# EAGLE library part TPS732XX (library m_vreg)
Cap-Free, NMOS, 250mALowDropout Regulator with Reverse Current Protection Features Stable with No Output Capacitor or Any Value or Type of Capacitor Input Voltage Range: 1.7V to 5.5V Ultralow Dropout Voltage: 40mV Typ at 250mA Excellent Load Transient Response?with or without Optional Output Capacitor New NMOS Topology Provides Low Reverse Leakage Current Low Noise: 30mVRMS Typ (10kHz to 100kHz) 0.5% Initial Accuracy 1% Overall Accuracy (Line, Load, and Temperature) Less Than 1mA Max IQ in Shutdown Mode Thermal Shutdown and Specified Min/Max Current Limit Protection Available in Multiple Output Voltage Versions
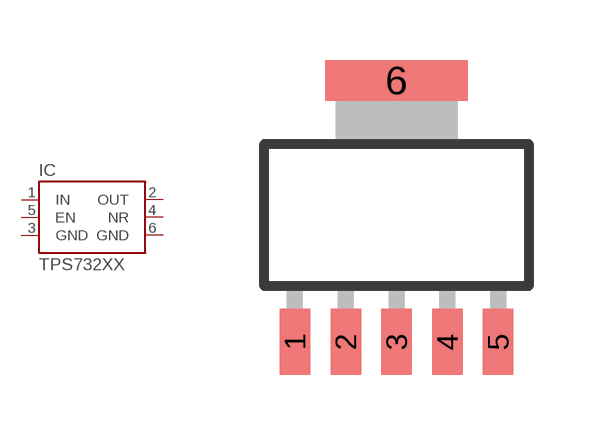
[diagram p4: symbol with the pads of SOT223-6; footprint SOT223-6]

Designator prefix IC

## TPS732XXDCQ (PARTNUM: TPS732XX)  [SOT223-6]
1  IN
2  OUT
3  GND
4  NR
5  EN
6  GND

## Footprint SOT223-6 (pad centres in mm)
SOT223 6 Lead Package TI DCQ package, from Mechanical Datasheet <http://focus.ti.com/lit/ml/mpds098c/mpds098c.pdf>.
smd 0.762 x 1.651: 1 -2.54,-3.175; 2 -1.27,-3.175; 3 0,-3.175; 4 1.27,-3.175; 5 2.54,-3.175
smd 3.556 x 1.016: 6 0,3.365